# EAGLE library part MAX1873SEEE+ (library SamacSys_Parts)
Maxim MAX1873SEEE+, Battery Charge Controller IC Lithium-Ion, NiCD, NiMH, 16-Pin QSOP Source: Datasheet <https://datasheets.maximintegrated.com/en/ds/MAX1873.pdf>
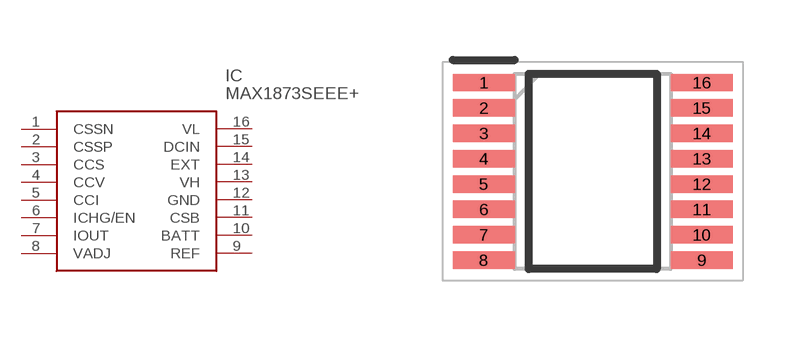
[diagram p31: symbol with the pads of SOP64P602X175-16N; footprint SOP64P602X175-16N]

Designator prefix IC

## MAX1873SEEE+ (DESCRIPTION: Maxim MAX1873SEEE+, Battery Charge Controller IC Lithium-Ion, NiCD, NiMH, 16-Pin QSOP; HEIGHT: 1.75mm; MANUFACTURER_NAME: Maxim Integrated; MANUFACTURER_PART_NUMBER: MAX1873SEEE+; MOUSER_PART_NUMBER: 700-MAX1873SEEE; MOUSER_PRICE-STOCK: https://www.mouser.co.uk/ProductDetail/Maxim-Integrated/MAX1873SEEE%2b?qs=LHmEVA8xxfZka%2FepP3C%252Bfg%3D%3D)  [SOP64P602X175-16N]
1  CSSN
2  CSSP
3  CCS
4  CCV
5  CCI
6  ICHG/EN
7  IOUT
8  VADJ
9  REF
10  BATT
11  CSB
12  GND
13  VH
14  EXT
15  DCIN
16  VL

## Footprint SOP64P602X175-16N (pad centres in mm)
MAX 21-0055_J
smd 1.55 x 0.435: 1 -2.725,2.222; 2 -2.725,1.588; 3 -2.725,0.952; 4 -2.725,0.318; 5 -2.725,-0.318; 6 -2.725,-0.952; 7 -2.725,-1.588; 8 -2.725,-2.222; 9 2.725,-2.222; 10 2.725,-1.588; 11 2.725,-0.952; 12 2.725,-0.318; 13 2.725,0.318; 14 2.725,0.952; 15 2.725,1.588; 16 2.725,2.222